# Altium footprint library Diods.PcbLib: 3 footprints
Each footprint in its own frame and in the unit in brackets; x right, y up, seen from the top. Pads: shape width x height; smd on the part's side, far side on the other; paste and mask are expansions set on the pad; w line width, h text height; cw(c..) or ccw(c..) is an arc to the next point about the centre after c.
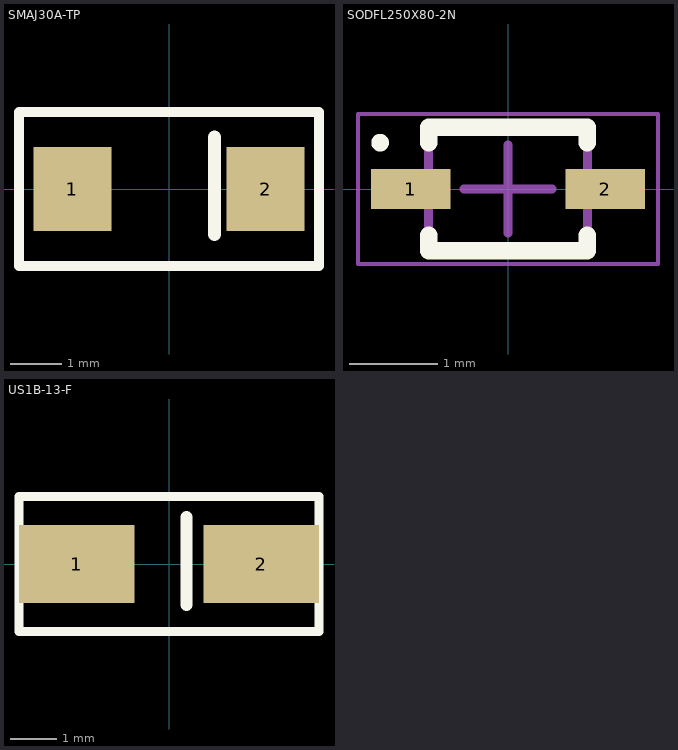
[diagram p0: the footprints below, top view; thin cyan lines are the x and y axes]

## SMAJ30A-TP [mm]
pads (2):
  rect 1.52x1.63 smd: 1(-1.88,0) 2(1.88,0)
Top Overlay:
  lines w0.2: -2.921,-1.5 2.921,-1.5 2.921,1.5 -1.88,1.5 -2.921,1.5 -2.921,-1.5
  lines w0.254: 0.889,-0.889 0.889,1.016

## SODFL250X80-2N [mm] "SODFL, 2-Leads, Body 1.25x2.50mm, IPC Medium Density"
height 0.8
pads (2):
  rect 0.9x0.45 smd: 1(-1.1,0) 2(1.1,0)
Top Overlay:
  circle w0.1: c-1.45,0.525 r0.05
  lines w0.2: -0.9,-0.525 -0.9,-0.7 0.9,-0.7 0.9,-0.525 ; -0.9,0.525 -0.9,0.7 0.9,0.7 0.9,0.525
Mechanical 13:
  lines w0.1: -0.9,-0.675 -0.9,0.675 0.9,0.675 0.9,-0.675 -0.9,-0.675
Mechanical 15:
  lines w0.05: -1.7,-0.85 -1.7,0.85 1.7,0.85 1.7,-0.85 -1.7,-0.85
  lines w0.1: -0.5,0 0.5,0 ; 0,-0.5 0,0.5
3D body: height 0.8, standoff 0, extent -0.9,-0.675 0.9,0.675

## US1B-13-F [mm]
pads (2):
  rect 2.5x1.7 smd: 1(-2,0) 2(2,0)
Top Overlay:
  lines w0.2: -3.25,-1.46 -3.25,-0.486 -3.25,1.46 3.25,1.46 3.25,-1.46 -3.25,-1.46
  lines w0.254: 0.381,-0.889 0.381,1.016